# Altium footprint library U.FL-R-SMT.PcbLib: 1 footprints
Each footprint in its own frame and in the unit in brackets; x right, y up, seen from the top. Pads: shape width x height; smd on the part's side, far side on the other; paste and mask are expansions set on the pad; w line width, h text height; cw(c..) or ccw(c..) is an arc to the next point about the centre after c.
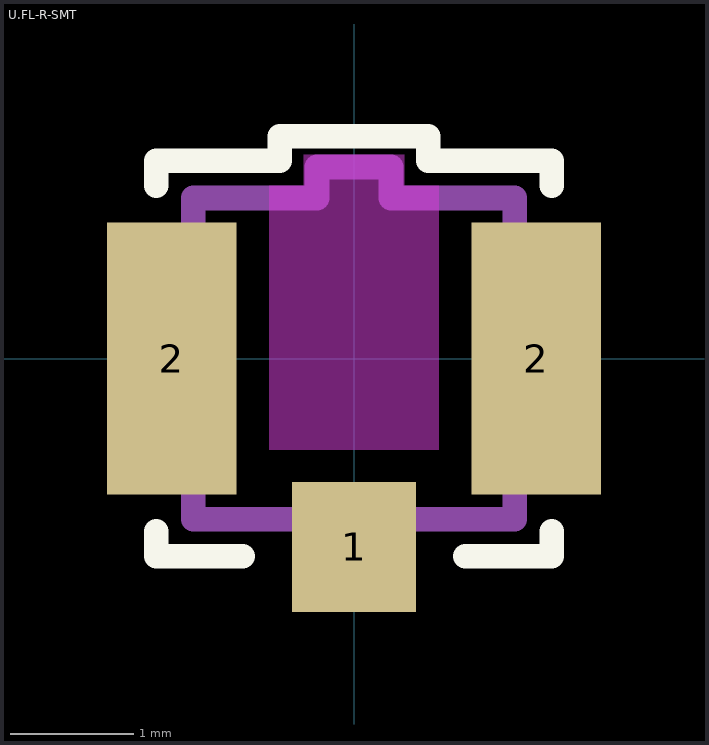
[diagram p0: the footprint, top view; thin cyan lines are the x and y axes]

## U.FL-R-SMT [mm]
pads (3):
  rect 1x1.05 smd: 1(0,-1.525)
  rect 1.05x2.2 smd: 2(-1.475,0) 2(1.475,0)
Top Layer keep-out:
  region: -0.686,-0.737 0.686,-0.737 0.686,1.397 0.406,1.397 0.406,1.651 -0.406,1.651 -0.406,1.397 -0.686,1.397
Top Overlay:
  lines w0.2: -1.6,-1.4 -1.6,-1.6 -0.9,-1.6 ; -1.6,1.4 -1.6,1.6 -0.6,1.6 -0.6,1.8 0.6,1.8 0.6,1.6 1.6,1.6 1.6,1.4 ; 0.9,-1.6 1.6,-1.6 1.6,-1.4
Top SM Assembly:
  lines w0.2: -1.311,-0.9 -1.5,-0.9 -1.5,0.9 -1.311,0.9 ; -1.3,-0.9 -1.3,-1.3 -0.33,-1.3 ; -1.3,0.9 -1.3,1.3 -0.3,1.3 -0.3,1.55 0.3,1.55 0.3,1.3 1.3,1.3 1.3,0.9 ; -0.3,-1.3 -0.3,-1.55 0.3,-1.55 0.3,-1.3 ; 0.33,-1.3 1.3,-1.3 1.3,-0.9 ; 1.311,-0.9 1.5,-0.9 1.5,0.9 1.311,0.9
  text ".Designator" at 0,0 h1.3
3D body: height 0.35, standoff 0, extent -1.5,-1.55 1.5,1.55
3D body: height 1.25, standoff 0, extent -0.992,-0.998 1,0.998